# Altium footprint library CB3LV3C50M0000.PcbLib: 1 footprints
Each footprint in its own frame and in the unit in brackets; x right, y up, seen from the top. Pads: shape width x height; smd on the part's side, far side on the other; paste and mask are expansions set on the pad; w line width, h text height; cw(c..) or ccw(c..) is an arc to the next point about the centre after c.
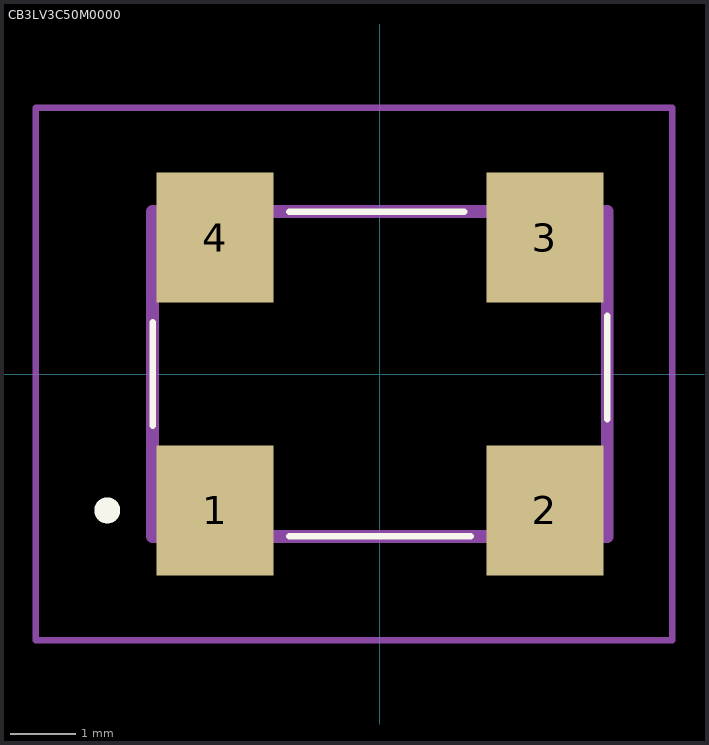
[diagram p0: the footprint, top view; thin cyan lines are the x and y axes]

## CB3LV3C50M0000 [mm]
pads (4):
  rect 1.8x2 smd: 1(-2.54,-2.1) 2(2.54,-2.1) 3(2.54,2.1) 4(-2.54,2.1)
Top Overlay:
  lines w0.1: -3.5,-0.8 -3.5,0.8 ; -1.4,-2.5 1.4,-2.5 ; -1.4,2.5 1.3,2.5 ; 3.5,-0.7 3.5,0.9
  lines w0.2: -4.3,-2.1 -4.3,-2.1 ; -4.3,-2.1 ccw(c-4.2,-2.1) -4.1,-2.1 ; -4.3,-2.1 cw(c-4.2,-2.1) -4.1,-2.1 ; -4.1,-2.1 -4.1,-2.1
Mechanical 15:
  lines w0.2: -3.5,-2.5 3.5,-2.5 3.5,2.5 -3.5,2.5 -3.5,-2.5
Mechanical 20:
  lines w0.1: -5.3,-4.1 4.5,-4.1 4.5,4.1 -5.3,4.1 -5.3,-4.1
3D body "CB3LV-3C-50M0000.stp": height 5.8, standoff -4.65, extent -10,-3.376 10,3.376